# Altium schematic symbol library Temperature project symbols.SchLib: 36 symbols
Pins are listed as number, name and electrical type; pins without a type are passive.

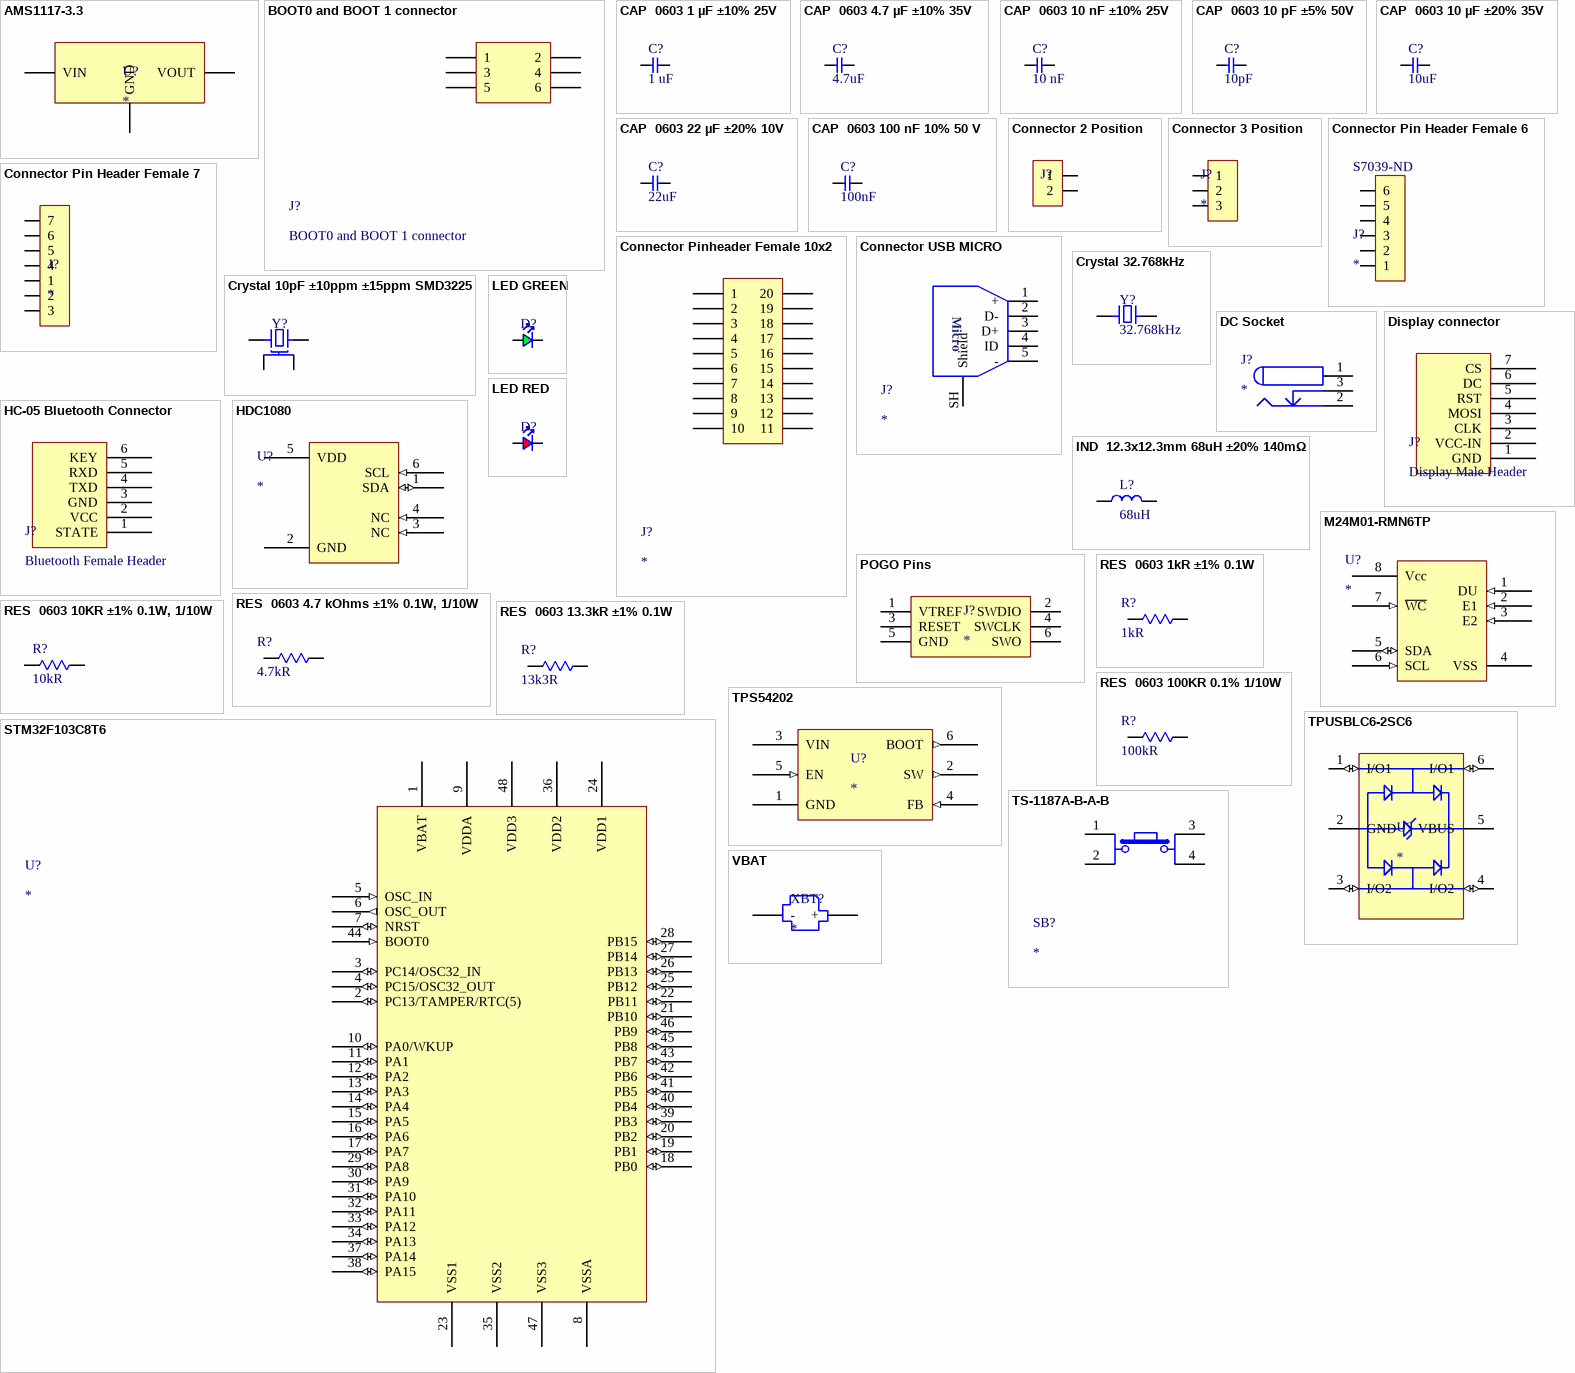
[diagram p0: symbols AMS1117-3.3 to VBAT]

## AMS1117-3.3
designator U?
Linear Voltage Regulator IC Positive Fixed 1 Output 1A SOT-223-3L; Supplier 1: Digikey; Manufacturer 2: UMW(Youtai Semiconductor Co., Ltd.); Manufacturer Part Number 2: AMS1117-3.3; Stock 1: 4324; Pricing 1: 1 = 0.68, 10 = 0.407, 25 = 0.3352, 100 = 0.2538, 250 = 0.2138, 500 = 0.18916, 1000 = 0.16853 (USD); RoHS: No; Supplier 2: LCSC; Supplier Part Number 2: C347222; Supplier Part Number 1: 4518-AMS1117-3.3CT-ND
footprint SOT-223-3L (Linear Voltage Regulator IC Positive Fixed 1 Output 1A SOT-223-3L)
pins: 1 GND, 2 VOUT, 3 VIN

## BOOT0 and BOOT 1 connector
designator J?
2.54mm 2.54mm Double Row 2.5A 6P -40℃~+105℃ Direct Insert 2x3P Top 8.5mm Square Hole Plugin,P=2.54mm Female Headers ROHS; Manufacturer 2: ZHOURI; Manufacturer Part Number 2: PM2.54-2*3; Supplier 2: LCSC; Supplier Part Number 2: C5116527
footprint 2X3 Female Pin Header Connector
pins: 1, 2, 3, 4, 5, 6

## CAP  0603 1 µF ±10% 25V
designator C?, comment 1 uF
1 µF ±10% 25V Ceramic Capacitor X5R 0603 (1608 Metric); Manufacturer: Yageo; Manufacturer Part Number 1: CC0603KRX5R8BB105; Material: 4241ConductorMaterial; Capacitance: 1uF; Supplier 1: Digikey; Stock 1: 2221073; Pricing 1: 1 = 0.1, 10 = 0.049, 50 = 0.0294, 100 = 0.0231, 500 = 0.01706, 1000 = 0.01413 (USD); RoHS: Yes; Mount: Surface Mount; Case/Package: 0603; Number of Pins: 2; Case Code (Metric): 1608; Case Code (Imperial): 0603; Min Operating Temperature: -55°C; Max Operating Temperature: 85°C; Tolerance: 10%; Dielectric: X5R; Voltage Rating: 25V; Packaging: Tape and Reel; Termination: SMD/SMT; Series: CC; Construction: Flat; Voltage Rating (DC): 25V; Length: 1.6mm; Height: 0.8mm; Depth: 0.8mm; Radiation Hardening: No; Reach SVHC Compliant: No; RoHS Compliant: Yes; Halogen Free: 5694HalogenFree; Lead Free: 5697LeadFree; ComponentLink1URL: https://datasheet.ciiva.com/7978/1525783-7978171.pdf?src-supplier=Element14; ComponentLink1Description: https://datasheet.ciiva.com/7978/1525783-7978171.pdf?src-supplier=Element14; ComponentLink2URL: https://datasheet.ciiva.com/176/mlccorderingcode-176786.pdf?src-supplier=Digikey; ComponentLink2Description: https://datasheet.ciiva.com/176/mlccorderingcode-176786.pdf?src-supplier=Digikey; ComponentLink3URL: https://datasheet.ciiva.com/176/mlccorderingcode-176785.pdf?src-supplier=Digikey; ComponentLink3Description: https://datasheet.ciiva.com/176/mlccorderingcode-176785.pdf?src-supplier=Digikey; ComponentLink4URL: https://datasheet.ciiva.com/176/mlccorderingcode-176787.pdf?src-supplier=Digikey; ComponentLink4Description: https://datasheet.ciiva.com/176/mlccorderingcode-176787.pdf?src-supplier=Digikey; ComponentLink5URL: https://datasheet.ciiva.com/11586/upy-gphc-x5r-4v-to-50v-12-11586318.pdf?src-supplier=Avnet; ComponentLink5Description: https://datasheet.ciiva.com/11586/upy-gphc-x5r-4v-to-50v-12-11586318.pdf?src-supplier=Avnet; value: 1 uF; Supplier 2: LCSC; Manufacturer Part Number 2: C14664; Supplier Part Number 1: 311-1445-1-ND; Supplier Part Number 2: C14664
footprint CAP 0603
pins: 1, 2

## CAP  0603 4.7 µF ±10% 35V
designator C?, comment 4.7uF
4.7 µF ±10% 35V Ceramic Capacitor X5R 0603 (1608 Metric); Supplier 1: Digikey; Manufacturer 2: Murata; Manufacturer Part Number 2: GRM188R6YA475KE15D; Stock 1: 74456; Pricing 1: 1 = 0.3, 10 = 0.175, 50 = 0.125, 100 = 0.1095, 500 = 0.08322, 1000 = 0.07504 (USD); RoHS: Yes; Mount: Surface Mount; Case/Package: 0603; Case Code (Metric): 1608; Case Code (Imperial): 0603; Material: Ceramic; Weight: 0.000222oz; Min Operating Temperature: -55°C; Max Operating Temperature: 85°C; Capacitance: 4.7uF; Tolerance: 10%; Voltage Rating: 35V; Packaging: Tape and Reel; Package Quantity: 1; Dielectric: X5R; Voltage: 35V; Termination: SMD/SMT; Voltage Rating (DC): 35V; Series: GRM; Length: 1.6mm; Width: 0.8mm; Height: 0.8mm; Thickness: 0.031inch; Depth: 0.8mm; Reach SVHC Compliant: No; Lead Free: Lead Free; RoHS Compliant: Yes; ComponentLink1URL: https://datasheet.ciiva.com/46444/1769893-46444984.pdf?src-supplier=Element14; ComponentLink1Description: https://datasheet.ciiva.com/46444/1769893-46444984.pdf?src-supplier=Element14; ComponentLink2URL: https://datasheet.ciiva.com/46444/1769893-46444985.pdf?src-supplier=Element14; ComponentLink2Description: https://datasheet.ciiva.com/46444/1769893-46444985.pdf?src-supplier=Element14; ComponentLink3URL: https://datasheet.ciiva.com/14906/partnumbering-e-01-14906427.pdf?src-supplier=Digikey; ComponentLink3Description: https://datasheet.ciiva.com/14906/partnumbering-e-01-14906427.pdf?src-supplier=Digikey; ComponentLink4URL: https://datasheet.ciiva.com/14906/partnumbering-e-01-14906426.pdf?src-supplier=Digikey; ComponentLink4Description: https://datasheet.ciiva.com/14906/partnumbering-e-01-14906426.pdf?src-supplier=Digikey; ComponentLink5URL: https://datasheet.ciiva.com/14906/partnumbering-e-01-14906428.pdf?src-supplier=Digikey; ComponentLink5Description: https://datasheet.ciiva.com/14906/partnumbering-e-01-14906428.pdf?src-supplier=Digikey; value: 4.7uF; Supplier 2: LCSC; Supplier Part Number 2: C162274; Supplier Part Number 1: 490-7205-6-ND
footprint CAP 0603
pins: 1, 2

## CAP  0603 10 nF ±10% 25V
designator C?, comment 10 nF
10000 pF ±10% 25V Ceramic Capacitor X7R 0603 (1608 Metric); Supplier 1: Digikey; Manufacturer 2: Murata; Manufacturer Part Number 2: GCJ188R71E103KA01J; Stock 1: 28712; Pricing 1: 1 = 0.12, 10 = 0.068, 50 = 0.047, 100 = 0.0406, 500 = 0.02964, 1000 = 0.02625, 2500 = 0.02265, 5000 = 0.02047 (USD); RoHS: Yes; Supplier Part Number 1: 490-GCJ188R71E103KA01JCT-ND; Supplier 2: LCSC; value: 10 nF; Supplier Part Number 2: C17255079
footprint CAP 0603
pins: 1, 2

## CAP  0603 10 pF ±5% 50V
designator C?, comment 10pF
10 pF ±5% 50V Ceramic Capacitor C0G, NP0 0603 (1608 Metric); Temperature Coefficient: 30ppm/°C; Insulation Resistance: 100GR; value: 10pF; Supplier 1: Digikey; Manufacturer 2: Yageo; Manufacturer Part Number 2: CC0603JRNPO9BN100; Stock 1: 267181; Pricing 1: 1 = 0.1, 10 = 0.03, 50 = 0.0204, 100 = 0.0173, 500 = 0.0123, 1000 = 0.01073 (USD); RoHS: Yes; Mount: Surface Mount; Case/Package: 0603; Number of Pins: 2; Case Code (Metric): 1608; Case Code (Imperial): 0603; Min Operating Temperature: -55°C; Max Operating Temperature: 125°C; Tolerance: 5%; Dielectric: C0G; Capacitance: 10pF; Voltage: 50V; Voltage Rating: 50V; Voltage Rating (DC): 50V; Packaging: Tape and Reel; Package Quantity: 4000; Termination: SMD/SMT; Series: CC; Length: 1.6mm; Width: 0.8mm; Height: 0.8mm; Depth: 0.8mm; Radiation Hardening: No; RoHS Compliant: Yes; Reach SVHC Compliant: No; Lead Free: Lead Free; Halogen Free: 5694HalogenFree; ComponentLink1URL: https://datasheet.ciiva.com/144/mlccorderingcode-144651.pdf?src-supplier=Digikey; ComponentLink1Description: https://datasheet.ciiva.com/144/mlccorderingcode-144651.pdf?src-supplier=Digikey; ComponentLink2URL: https://datasheet.ciiva.com/11786/0900766b8079c870-11786407.pdf?src-supplier=Rs; ComponentLink2Description: https://datasheet.ciiva.com/11786/0900766b8079c870-11786407.pdf?src-supplier=Rs; ComponentLink3URL: https://datasheet.ciiva.com/5789/1734582-5789616.pdf?src-supplier=Farnell; ComponentLink3Description: https://datasheet.ciiva.com/5789/1734582-5789616.pdf?src-supplier=Farnell; ComponentLink4URL: https://datasheet.ciiva.com/26862/getdatasheetpartid-403524-26862758.pdf?src-supplier=Verical; ComponentLink4Description: https://datasheet.ciiva.com/26862/getdatasheetpartid-403524-26862758.pdf?src-supplier=Verical; ComponentLink5URL: https://datasheet.ciiva.com/7978/1132289-7978126.pdf?src-supplier=Element14; ComponentLink5Description: https://datasheet.ciiva.com/7978/1132289-7978126.pdf?src-supplier=Element14; ComponentLink6URL: https://datasheet.ciiva.com/46430/1835847-46430150.pdf?src-supplier=Element14; ComponentLink6Description: https://datasheet.ciiva.com/46430/1835847-46430150.pdf?src-supplier=Element14; ComponentLink7URL: https://datasheet.ciiva.com/144/mlccorderingcode-144650.pdf?src-supplier=Digikey; ComponentLink7Description: https://datasheet.ciiva.com/144/mlccorderingcode-144650.pdf?src-supplier=Digikey; ComponentLink8URL: https://datasheet.ciiva.com/144/mlccorderingcode-144649.pdf?src-supplier=Digikey; ComponentLink8Description: https://datasheet.ciiva.com/144/mlccorderingcode-144649.pdf?src-supplier=Digikey; ComponentLink9URL: https://datasheet.ciiva.com/5425/upy-gp-np0-16v-to-50v-8-5425564.pdf?src-supplier=Mouser; ComponentLink9Description: https://datasheet.ciiva.com/5425/upy-gp-np0-16v-to-50v-8-5425564.pdf?src-supplier=Mouser; ComponentLink10URL: https://datasheet.ciiva.com/8033/1734582-8033710.pdf?src-supplier=Element14; ComponentLink10Description: https://datasheet.ciiva.com/8033/1734582-8033710.pdf?src-supplier=Element14; ComponentLink11URL: https://datasheet.ciiva.com/8033/1734582-8033706.pdf?src-supplier=Element14; ComponentLink11Description: https://datasheet.ciiva.com/8033/1734582-8033706.pdf?src-supplier=Element14; Supplier Part Number 1: 311-1058-1-ND; 1: *; Supplier 2: LCSC; Supplier Part Number 2: C106245
footprint CAP 0603
pins: 1, 2

## CAP  0603 10 µF ±20% 35V
designator C?, comment 10uF
10 µF ±20% 35V Ceramic Capacitor X5R 0603 (1608 Metric); Supplier 1: Digikey; Manufacturer 2: Murata; Manufacturer Part Number 2: GRM188R6YA106MA73D; Stock 1: 432618; Pricing 1: 1 = 0.3, 10 = 0.172, 50 = 0.123, 100 = 0.1077, 500 = 0.0818, 1000 = 0.07373 (USD); RoHS: Yes; Mount: Surface Mount; Case/Package: 0603; Case Code (Metric): 1608; Case Code (Imperial): 0603; Material: Ceramic; Min Operating Temperature: -55°C; Max Operating Temperature: 85°C; Packaging: Cut Tape; Capacitance: 10uF; Voltage Rating: 35V; Tolerance: 20%; Voltage Rating (DC): 35V; Dielectric: X5R; Series: GRM; Length: 0.063inch; Width: 0.031inch; Height: 1mm; Thickness: 0.039inch; RoHS Compliant: Yes; ComponentLink1URL: http://search.murata.co.jp/Ceramy/image/img/A01X/G101/ENG/GRM188R6YA106MA73-01.pdf?src-supplier=Digikey; ComponentLink1Description: http://search.murata.co.jp/Ceramy/image/img/A01X/G101/ENG/GRM188R6YA106MA73-01.pdf?src-supplier=Digikey; ComponentLink2URL: https://www.murata.com/~/media/webrenewal/support/library/catalog/products/capacitor/mlcc/c02e.ashx?la=en-us&src-supplier=Digikey; ComponentLink2Description: https://www.murata.com/~/media/webrenewal/support/library/catalog/products/capacitor/mlcc/c02e.ashx?la=en-us&src-supplier=Digikey; ComponentLink3URL: https://datasheet.octopart.com/GRM188R6YA106MA73D-Murata-datasheet-86813743.pdf?src-supplier=Future+Electronics; ComponentLink3Description: https://datasheet.octopart.com/GRM188R6YA106MA73D-Murata-datasheet-86813743.pdf?src-supplier=Future+Electronics; ComponentLink4URL: https://datasheet.octopart.com/GRM188R6YA106MA73D-Murata-datasheet-149523261.pdf?src-supplier=Newark; ComponentLink4Description: https://datasheet.octopart.com/GRM188R6YA106MA73D-Murata-datasheet-149523261.pdf?src-supplier=Newark; ComponentLink5URL: http://search.murata.co.jp/Ceramy/image/img/A01X/G101/ENG/GRM188R6YA106MA73-01.pdf?src-supplier=Mouser; ComponentLink5Description: http://search.murata.co.jp/Ceramy/image/img/A01X/G101/ENG/GRM188R6YA106MA73-01.pdf?src-supplier=Mouser; ComponentLink6URL: http://search.murata.co.jp/Ceramy/image/img/A01X/G101/ENG/GRM188R6YA106MA73-01.pdf?src-supplier=Future+Electronics; ComponentLink6Description: http://search.murata.co.jp/Ceramy/image/img/A01X/G101/ENG/GRM188R6YA106MA73-01.pdf?src-supplier=Future+Electronics; ComponentLink7URL: http://search.murata.co.jp/Ceramy/image/img/A01X/G101/ENG/GRM188R6YA106MA73-01.pdf?src-supplier=TTI; ComponentLink7Description: http://search.murata.co.jp/Ceramy/image/img/A01X/G101/ENG/GRM188R6YA106MA73-01.pdf?src-supplier=TTI; ComponentLink8URL: https://datasheet.octopart.com/GRM188R6YA106MA73D-Murata-datasheet-165579666.pdf?src-supplier=TME; ComponentLink8Description: https://datasheet.octopart.com/GRM188R6YA106MA73D-Murata-datasheet-165579666.pdf?src-supplier=TME; Supplier Part Number 1: 490-13248-1-ND; Supplier Part Number 2: C194427; Supplier 2: LCSC; value: 10uF
footprint CAP 0603
pins: 1, 2

## CAP  0603 22 µF ±20% 10V
designator C?, comment 22uF
10V 22uF X5R ±20% 0603 Multilayer Ceramic Capacitors MLCC - SMD/SMT ROHS; Supplier 2: LCSC; Manufacturer 2: Samsung Electro-Mechanics; Manufacturer Part Number 2: CL10A226MP8NUNE; Supplier Part Number 2: C86295; value: 22uF
footprint CAP 0603
pins: 1, 2

## CAP  0603 100 nF 10% 50 V
designator C?, comment 100nF
0.1 µF ±10% 50V Ceramic Capacitor X7R 0603 (1608 Metric); Manufacturer 1: Samsung; Manufacturer Part Number 1: CL10B104KB8NNNC; Supplier 1: Digikey; Stock 1: 6418947; Pricing 1: 4000 = 0.00562, 8000 = 0.00513, 12000 = 0.00489, 28000 = 0.00464, 100000 = 0.00336, 200000 = 0.00325, 400000 = 0.00306 (USD); RoHS: Yes; Mount: Surface Mount; Case/Package: 0603; Case Code (Metric): 1608; Case Code (Imperial): 0603; Material: Ceramic; Min Operating Temperature: -55°C; Max Operating Temperature: 125°C; Capacitance: 100nF; Tolerance: 10%; Dielectric: X7R; Voltage: 50V; Voltage Rating (DC): 50V; Voltage Rating: 50V; Package Quantity: 1; Packaging: Tape and Reel; Series: CL; Construction: Flat; Length: 1.6mm; Width: 0.031inch; Height: 0.8mm; Depth: 0.8mm; Thickness: 0.035inch; Radiation Hardening: No; Lead Free: Lead Free; RoHS Compliant: Yes; ComponentLink1URL: https://datasheet.ciiva.com/25803/cl10b104kb8nnnc-25803393.pdf?src-supplier=Digikey; ComponentLink1Description: https://datasheet.ciiva.com/25803/cl10b104kb8nnnc-25803393.pdf?src-supplier=Digikey; ComponentLink2URL: https://datasheet.ciiva.com/26838/getdatasheetpartid-89097-26838411.pdf?src-supplier=Verical; ComponentLink2Description: https://datasheet.ciiva.com/26838/getdatasheetpartid-89097-26838411.pdf?src-supplier=Verical; ComponentLink3URL: https://datasheet.ciiva.com/29198/456651-da-01-en-vs-kondensator-0605-29198839.pdf?src-supplier=Conrad; ComponentLink3Description: https://datasheet.ciiva.com/29198/456651-da-01-en-vs-kondensator-0605-29198839.pdf?src-supplier=Conrad; Supplier Part Number 1: 1276-1000-2-ND; value: 100nF; Manufacturer 2: Samsung; Manufacturer Part Number 2: CL10B104KB8NNNC; Supplier 2: LCSC; Supplier Part Number 2: C1591
footprint CAP 0603
pins: 1, 2

## Connector 2 Position
designator J?  (value not drawn)
Connector Header Through Hole 2 position 0.100" (2.54mm); Manufacturer 1: Wurth Electronics; Manufacturer Part Number 1: 61300211121; Current Rating: 3A; Voltage Rating: 250V; Number of Positions: 2; Gender: 29Gender; Contact Resistance: 20mR; Pitch: 0.1inch; Supplier 1: Digikey; Stock 1: 71612; Pricing 1: 1 = 0.13, 10 = 0.113, 25 = 0.094, 50 = 0.079, 100 = 0.071, 1000 = 0.065 (USD); RoHS: Yes; Mount: Through Hole; Contact Plating: Gold; Housing Material: PBT; Contact Material: Copper Alloy,Copper; Color: Black; Min Operating Temperature: -40°C; Max Operating Temperature: 125°C; Number of Rows: 1; Contact Gender: Male; Packaging: Bulk; Termination: Through Hole; Number of Contacts: 2; Series: WR-PHD; Contact Type: Male Pin; Operating Supply Voltage: 250V; Orientation: Vertical; Height: 8.94mm; Contact Mating Length: 0.236inch; Lead Free: Lead Free; RoHS Compliant: Yes; Reach SVHC Compliant: Unknown; ComponentLink1URL: https://datasheet.ciiva.com/13619/6130xx11121-48870-13619345.pdf?src-supplier=Mouser; ComponentLink1Description: https://datasheet.ciiva.com/13619/6130xx11121-48870-13619345.pdf?src-supplier=Mouser; Supplier Part Number 1: 732-5315-ND; Manufacturer Part Number 2: PREC001SFAN-RC; Manufacturer 2: Sullins Connector Solutions; Supplier 2: LCSC; Supplier Part Number 2: C3326568
footprint WR-PHD Pin Header 2 pin (2 pin header connector 2.53 mm pitch)
pins: 1, 2

## Connector 3 Position
designator J?
Connector Header Through Hole 3 position 0.100" (2.54mm); Manufacturer 1: Wurth Electronics; Manufacturer Part Number 1: 61300311121; Number of Positions: 3; Gender: Male; Contact Resistance: 20mR; Current Rating: 3A; Voltage Rating: 250V; Pitch: 0.1inch; Supplier 1: Digikey; Stock 1: 158018; Pricing 1: 1 = 0.13, 10 = 0.113, 25 = 0.094, 50 = 0.079, 100 = 0.071, 1000 = 0.066 (USD); RoHS: Yes; Mount: Through Hole; Contact Plating: Gold; Contact Material: Copper; Color: Black; Min Operating Temperature: -40°C; Max Operating Temperature: 105°C; Number of Rows: 1; Packaging: Bulk; Termination: Solder; Number of Contacts: 3; Series: WR-PHD; Contact Type: Male Pin; Operating Supply Voltage: 250V; Orientation: 5495OrientationType; Height: 8.94mm; Contact Mating Length: 0.236inch; Lead Free: Lead Free; RoHS Compliant: Yes; Reach SVHC Compliant: Unknown; ComponentLink1URL: https://katalog.we-online.de/em/datasheet/6130xx11121.pdf?src-supplier=Digikey; ComponentLink1Description: https://katalog.we-online.de/em/datasheet/6130xx11121.pdf?src-supplier=Digikey; ComponentLink2URL: http://www.farnell.com/cad/1737268.pdf?src-supplier=Element14; ComponentLink2Description: http://www.farnell.com/cad/1737268.pdf?src-supplier=Element14; ComponentLink3URL: https://datasheet.octopart.com/61300311121-W%C3%BCrth-Elektronik-datasheet-21154836.pdf?src-supplier=Element14; ComponentLink3Description: https://datasheet.octopart.com/61300311121-W%C3%BCrth-Elektronik-datasheet-21154836.pdf?src-supplier=Element14; Manufacturer 2: Harwin; Manufacturer Part Number 2: M20-9990345; Supplier 2: LCSC; Supplier Part Number 2: C3337081; Supplier Part Number 1: 732-5316-ND
footprint WR-PHD Pin Header 3 pin - duplicate (3 pin header connector 2.53 mm pitch)
pins: 1, 2, 3

## Connector Pin Header Female 6
designator J?  Supplier Part Number 1: S7039-ND
6 Position Header Connector 0.100" (2.54mm) Through Hole Gold; Number of Positions: 6; Voltage Rating: 250V; Current Rating: 3A; Number of Contacts: 6NUMBER; Supplier 1: Digikey; Manufacturer 2: Sullins; Manufacturer Part Number 2: PPPC061LFBN-RC; Stock 1: 14837; Pricing 1: 1 = 0.47, 10 = 0.382, 80 = 0.31725, 440 = 0.27275, 1000 = 0.25359, 5000 = 0.2405 (USD); RoHS: Yes; Mount: Through Hole; Contact Material: Nickel,Gold; Housing Material: Plastic; Contact Finish - Mating: GOLD; Insulation Color: Black; Insulation Material: Polyester; Contact Shape: Square; Min Operating Temperature: -40°C; Max Operating Temperature: 105°C; Number of Rows: 1; Packaging: Tray; Termination: Solder; Connector Type: Header; Contact Type: Female Socket; Fastening Type: Pull; Series: -; Length: 15.7mm; Width: 2.5mm; Height: 8.7mm; Lead Free: Lead Free; RoHS Compliant: Yes; Flammability Rating: UL94 V-0; ComponentLink1URL: https://media.digikey.com/pdf/Data%20Sheets/Sullins%20PDFs/Female_Headers.100_DS.pdf?src-supplier=Digikey; ComponentLink1Description: https://media.digikey.com/pdf/Data%20Sheets/Sullins%20PDFs/Female_Headers.100_DS.pdf?src-supplier=Digikey; Supplier 2: LCSC; Supplier Part Number 2: PPPC061LFBN-RC
pins: 1, 2, 3, 4, 5, 6

## Connector Pin Header Female 7
designator J?
2.54mm Single Row 3A Copper alloy 7P -40℃~+105℃ Direct Insert 1x7P 8.5mm Top Square Hole Plugin,P=2.54mm Female Headers ROHS; Manufacturer 2: HCTL; Manufacturer Part Number 2: PM254-1-07-Z-8.5; Supplier 2: LCSC; Supplier Part Number 2: C2897370
footprint 7 Pins Female Header
pins: 1, 2, 3, 4, 5, 6, 7

## Connector Pinheader Female 10x2
designator J?
20 Position Header Connector 0.100" (2.54mm) Through Hole Gold; Manufacturer: Sullins; Current Rating: 3A; Frequency: 100kHz; Max Output Current: -200mA; Max Supply Voltage: 16V; Min Supply Voltage: 4.5V; Supplier 1: Digikey; Manufacturer Part Number 2: PPPC102LFBN-RC; Stock 1: 44558; Pricing 1: 1 = 1.2, 10 = 0.98, 80 = 0.81475, 440 = 0.70043, 1000 = 0.6747 (USD); RoHS: Yes; Case/Package: 69Case; Contact Material: 150ConductorMaterial; Housing Material: 4239ConductorMaterial; Weight: 72.603129mg; Length: 4.9mm; Width: 3.91mm; Height: 1.58mm; Radiation Hardening: 5898YesNo; Lead Free: 5697LeadFree; Reach SVHC Compliant: 4186SVHC; RoHS Compliant: 5897YesNo; ComponentLink1URL: https://drawings-pdf.s3.amazonaws.com/10492.pdf?src-supplier=Digikey; ComponentLink1Description: https://drawings-pdf.s3.amazonaws.com/10492.pdf?src-supplier=Digikey; ComponentLink2URL: http://www.sullinscorp.com/catalogs/101_Page80-81_HEADER_.100_2.54mm_FEMALE.pdf?src-supplier=Future+Electronics; ComponentLink2Description: http://www.sullinscorp.com/catalogs/101_Page80-81_HEADER_.100_2.54mm_FEMALE.pdf?src-supplier=Future+Electronics; ComponentLink3URL: https://datasheet.octopart.com/PPPC102LFBN-RC-Sullins-datasheet-41308905.pdf?src-supplier=Future+Electronics; ComponentLink3Description: https://datasheet.octopart.com/PPPC102LFBN-RC-Sullins-datasheet-41308905.pdf?src-supplier=Future+Electronics; Supplier Part Number 1: S6106-ND; Supplier 2: LCSC; Supplier Part Number 2: C5845310
footprint Connector Pinheader 10x2 (20 Position Header Connector 0.100" (2.54mm) Through Hole Gold)
pins: 1, 2, 3, 4, 5, 6, 7, 8, 9, 10, 11, 12, 13, 14, 15, 16, 17, 18, 19, 20

## Connector USB MICRO
designator J?
1.8A USB 2.0 1 Horizontal attachment 5P Mother -20℃~+85℃ Micro-B SMD USB Connectors ROHS; Manufacturer 2: SHOU HAN; Manufacturer Part Number 2: MicroXNJ; Supplier 2: LCSC; Supplier Part Number 2: C404969
footprint Connector USB MICRO (1.8A USB 2.0 1 Horizontal attachment 5P Mother -20?~+85? Micro-B SMD USB Connectors ROHS)
pins: 1 +, 2 D-, 3 D+, 4 ID, 5 -, SH Shield
text: Micro

## Crystal 10pF ±10ppm ±15ppm SMD3225
designator Y?  (value not drawn)
8MHz Surface Mount Crystal 10pF ±10ppm ±15ppm SMD3225-4P Crystals ROHS; Manufacturer 2: Yajingxin; Manufacturer Part Number 2: TAXM8M4RDBCCT2T; Supplier Part Number 2: C400090; Supplier 2: LCSC
footprint SMD3225-4P (8MHz Surface Mount Crystal 10pF ±10ppm ±15ppm SMD3225-4P Crystals ROHS)
pins: 1, 2 GND, 3, 4 GND

## Crystal 32.768kHz
designator Y?, comment 32.768kHz
32.768kHz Surface Mount Crystal 7pF ±20ppm SMD2012-2P Crystals ROHS; Manufacturer 2: Seiko Epson; Manufacturer Part NUmber 2: X1A0000610006; Supplier 2: LCSC; Supplier Part Number 2: C99009
footprint SMD2012-2P (32.768kHz Surface Mount Crystal 7pF ±20ppm SMD2012-2P Crystals ROHS)
pins: 1, 2

## DC Socket
designator J?
Bend-in DC Power Receptacle -20℃~+70℃ 2.5mm 6.3mm 3A 30V Plugin DC Power Connectors ROHS; Manufacturer 2: XUNPU; Manufacturer Part Number 2: DC-005-A250; Supplier 2: LCSC; Supplier Part Number 2: C720558
footprint DC Socket
pins: 1 VIN, 2 GND, 3 GND

## Display connector
designator J?, comment Display Male Header
- Display: 0.95" Inch 7 Pin Colorful 65K SPI OLED Display Module SSD1331 9664 Resolution For 51 STM32 Arduino / - Connector: Direct Insert Policy 2.5mm 7P 6mm -40℃~+105℃ 3mm 2.54mm Single Row Black Brass 1x7P Plugin,P=2.54mm Pin Headers ROHS; Manufacturer 2: XFCN; Manufacturer Part Number 2: PZ254V-11-07P; Supplier 2: LCSC; Supplier Part Number 2: C492406
footprint OLED Display (0.95" Inch 7 Pin Colorful 65K SPI OLED Display Module SSD1331 9664 Resolution For 51 STM32 Arduino)
pins: 1 GND, 2 VCC-IN, 3 CLK, 4 MOSI, 5 RST, 6 DC, 7 CS

## HC-05 Bluetooth Connector
designator J?, comment Bluetooth Female Header
Number of Positions: 6; Voltage Rating: 250V; Current Rating: 3A; Number of Contacts: 6NUMBER; Supplier 1: Digikey; Manufacturer 2: Sullins; Manufacturer Part Number 2: PPPC061LFBN-RC; Stock 1: 9721; Pricing 1: 1 = 0.47, 10 = 0.382, 80 = 0.31725, 440 = 0.27275, 1000 = 0.25359, 5000 = 0.2405 (USD); RoHS: Yes; Mount: Through Hole; Contact Material: Nickel,Gold; Housing Material: Plastic; Contact Finish - Mating: GOLD; Insulation Color: Black; Insulation Material: Polyester; Contact Shape: Square; Min Operating Temperature: -40°C; Max Operating Temperature: 105°C; Number of Rows: 1; Packaging: Tray; Termination: Solder; Connector Type: Header; Contact Type: Female Socket; Fastening Type: Pull; Series: -; Length: 15.7mm; Width: 2.5mm; Height: 8.7mm; Lead Free: Lead Free; RoHS Compliant: Yes; Flammability Rating: UL94 V-0; ComponentLink1URL: https://media.digikey.com/pdf/Data%20Sheets/Sullins%20PDFs/Female_Headers.100_DS.pdf?src-supplier=Digikey; ComponentLink1Description: https://media.digikey.com/pdf/Data%20Sheets/Sullins%20PDFs/Female_Headers.100_DS.pdf?src-supplier=Digikey; Supplier Part Number 1: S7039-ND; Supplier 2: LCSC; Supplier Part Number 2: C5845309
footprint HC-05 Bluetooth
pins: 1 STATE, 2 VCC, 3 GND, 4 TXD, 5 RXD, 6 KEY

## HDC1080
designator U?
Humidity, Temperature 0 ~ 100% RH I2C ±2% RH 15 s Surface Mount; Response Time: 15s; Supplier 1: Digikey; Manufacturer 2: Texas Instruments; Manufacturer Part Number 2: HDC1080DMBR; Stock 1: 6270; Pricing 1: 1 = 3.47, 5 = 2.928, 10 = 2.721, 25 = 2.4688, 50 = 2.2942, 100 = 2.1319, 500 = 1.79838, 1000 = 1.67143 (USD); RoHS: Yes; Mount: Surface Mount; Min Operating Temperature: -40°C; Max Operating Temperature: 125°C; Accuracy: 2%; Interface: I2C; Sensor Type: Temperature; Output Type: I2C; Series: -; Packaging: Cut Tape; Lead Free: Lead Free; RoHS Compliant: Yes; ComponentLink1URL: http://www.ti.com/lit/ds/symlink/hdc1080.pdf?src-supplier=Digikey; ComponentLink1Description: http://www.ti.com/lit/ds/symlink/hdc1080.pdf?src-supplier=Digikey; ComponentLink2URL: http://www.ti.com/general/docs/suppproductinfo.tsp?distId=10&amp;gotoUrl=http%3A%2F%2Fwww.ti.com%2Flit%2Fgpn%2Fhdc1080&src-supplier=Digikey; ComponentLink2Description: http://www.ti.com/general/docs/suppproductinfo.tsp?distId=10&amp;gotoUrl=http%3A%2F%2Fwww.ti.com%2Flit%2Fgpn%2Fhdc1080&src-supplier=Digikey; Supplier 2: LCSC; Supplier Part Number 2: C82227; Supplier Part Number 1: 296-46272-1-ND
footprint PWSON(6-pin) DMB (HDC1080 Low Power, High Accuracy Digital Humidity Sensor with Temperature Sensor)
pins: 1 SDA (io), 2 GND (power), 3 NC (in), 4 NC (in), 5 VDD (power), 6 SCL (in)

## IND  12.3x12.3mm 68uH ±20% 140mΩ
designator L?, comment 68uH
2.1A 68uH ±20% 140mΩ SMD,12.3x12.3mm Inductors (SMD) ROHS; Manufacturer 2: SHOU HAN; Manufacturer Part Number 2: CYH127-68UH; Supplier 2: LCSC; Supplier Part Number 2: C2929504; value: 68uH
footprint Inductor SMD,12.3x12.3mm (2.1A 68uH ±20% 140mO SMD,12.3x12.3mm Inductors (SMD) ROHS)
pins: 1 2, 2

## LED GREEN
designator D?  (value not drawn)
Green 520nm LED Indication - Discrete 3.2V 0603 (1608 Metric); Manufacturer 1: Wurth Electronics; Manufacturer Part Number 1: 150060GS75000; Lens Color: Colorless; Viewing Angle: 140°; Lens Style: Clear,Flat,Rectangular; Luminous Intensity: 430mcd; Forward Current: 30mA; Test Current: 20mA; Lens Transparency: Clear; Max Reverse Voltage (DC): 5V; Output Current: 10uA; Power Dissipation: 105mW; Lens Size: 0.7mm; Supplier 1: Digikey; Stock 1: 149465; Pricing 1: 1 = 0.15, 50 = 0.142, 100 = 0.122, 500 = 0.105 (USD); RoHS: Yes; Mount: Surface Mount; Case/Package: 0603; Color: Green; Case Code (Metric): 1608; Case Code (Imperial): 0603; Min Operating Temperature: -40°C; Max Operating Temperature: 85°C; Wavelength: 520nm; Package Quantity: 1; Packaging: Cut Tape; Forward Voltage: 3.2V; Dominant Wavelength: 520nm; Series: WL-SMCW; Reverse Voltage: 5V; Length: 1.6mm; Width: 0.8mm; Height: 0.8mm; Lead Free: Lead Free; RoHS Compliant: Yes; Reach SVHC Compliant: Unknown; ComponentLink1URL: https://datasheet.ciiva.com/29562/150060gs75000-29562868.pdf?src-supplier=Digikey; ComponentLink1Description: https://datasheet.ciiva.com/29562/150060gs75000-29562868.pdf?src-supplier=Digikey; ComponentLink2URL: https://datasheet.ciiva.com/29279/759427-da-01-en-chipled-0603-w-kl-gruen-150060gs75000-29279201.pdf?src-supplier=Conrad; ComponentLink2Description: https://datasheet.ciiva.com/29279/759427-da-01-en-chipled-0603-w-kl-gruen-150060gs75000-29279201.pdf?src-supplier=Conrad; ComponentLink3URL: https://datasheet.ciiva.com/29562/150060gs75000-29562869.pdf?src-supplier=Digikey; ComponentLink3Description: https://datasheet.ciiva.com/29562/150060gs75000-29562869.pdf?src-supplier=Digikey; ComponentLink4URL: https://datasheet.ciiva.com/29562/150060gs75000-29562870.pdf?src-supplier=Digikey; ComponentLink4Description: https://datasheet.ciiva.com/29562/150060gs75000-29562870.pdf?src-supplier=Digikey; Supplier Part Number 1: 732-4971-1-ND; Supplier 2: LCSC; Supplier Part Number 2: C22371298; Manufacturer 2: HONGLITRONIC(Hongli Zhihui (HONGLITRONIC)); Manufacturer Part Number 2: PSC-1608U50GC-G4
footprint LED GREEN
pins: 1, 2

## LED RED
designator D?  (value not drawn)
Red 625nm LED Indication - Discrete 2V 0603 (1608 Metric); Manufacturer 1: Wurth Electronics; Manufacturer Part Number 1: 150060RS75000; Lens Color: Colorless; Viewing Angle: 140°; Lens Style: Clear,Flat,Rectangular; Luminous Intensity: 250mcd; Forward Current: 30mA; Test Current: 20mA; Lens Transparency: Clear; Max Reverse Voltage (DC): 5V; Power Dissipation: 72mW; Lens Size: 0.7mm; Supplier 1: Digikey; Stock 1: 110901; Pricing 1: 1 = 0.15, 50 = 0.142, 100 = 0.122, 500 = 0.105, 1000 = 0.10125 (USD); RoHS: Yes; Mount: Surface Mount; Case/Package: 0603; Color: Red; Case Code (Metric): 1608; Case Code (Imperial): 0603; Min Operating Temperature: -40°C; Max Operating Temperature: 85°C; Package Quantity: 1; Packaging: Cut Tape; Forward Voltage: 2V; Wavelength: 625nm; Dominant Wavelength: 625nm; Series: WL-SMCW; Reverse Voltage: 5V; Length: 1.6mm; Width: 0.8mm; Height: 0.8mm; RoHS Compliant: Yes; Reach SVHC Compliant: Unknown; ComponentLink1URL: https://datasheet.ciiva.com/29563/150060rs75000-29563040.pdf?src-supplier=Digikey; ComponentLink1Description: https://datasheet.ciiva.com/29563/150060rs75000-29563040.pdf?src-supplier=Digikey; Supplier Part Number 1: 732-4978-1-ND; Supplier 2: LCSC; Supplier Part Number 2: C128251; Manufacturer 2: Everlight Elec; Manufacturer Part Number 2: 19-213/R6C-AN2Q1B/3T
footprint LED RED
pins: 1, 2

## M24M01-RMN6TP
designator U?
EEPROM Memory IC 1Mbit I2C 1 MHz 500 ns 8-SOIC; Organization: 32KX8; Interface: I2C,Serial; Access Time: 500ns; Density: 1Mb; Max Frequency: 400kHz; Max Supply Voltage: 5.5V; Min Supply Voltage: 1.8V; Frequency: 1MHz; Operating Supply Voltage: 5V; Memory Type: Non-Volatile,EEPROM; Write Cycle Time-Max (tWC): 5ms; Access Time-Max: 900ns; Write Protection: YES; Supply Current: 2mA; Supplier 1: Digikey; Manufacturer 2: STMicroelectronics; Manufacturer Part Number 2: M24M01-RMN6TP; Stock 1: 11953; Pricing 1: 1 = 1.41, 10 = 1.287, 25 = 1.252, 50 = 1.2456, 100 = 1.1134, 250 = 1.11012, 500 = 1.09336, 1000 = 1.04695 (USD); RoHS: Yes; Mount: Surface Mount; Case/Package: SOIC; Number of Pins: 8; Min Operating Temperature: -40°C; Max Operating Temperature: 85°C; Packaging: Tape and Reel; Package Quantity: 2500; Memory Size: 1Mb; Series: -; Supply Voltage-Nom: 5.5V; Programming Voltage: 5.5V; Length: 5mm; Width: 4mm; Height: 1.25mm; Radiation Hardening: No; Lead Free: Lead Free; RoHS Compliant: Yes; ComponentLink1URL: https://datasheet.ciiva.com/1905/cd00147128-1905279.pdf?src-supplier=Digikey; ComponentLink1Description: https://datasheet.ciiva.com/1905/cd00147128-1905279.pdf?src-supplier=Digikey; ComponentLink2URL: https://datasheet.ciiva.com/1905/cd00147128-1905280.pdf?src-supplier=Digikey; ComponentLink2Description: https://datasheet.ciiva.com/1905/cd00147128-1905280.pdf?src-supplier=Digikey; ComponentLink3URL: https://datasheet.ciiva.com/1905/cd00147128-1905281.pdf?src-supplier=Digikey; ComponentLink3Description: https://datasheet.ciiva.com/1905/cd00147128-1905281.pdf?src-supplier=Digikey; ComponentLink4URL: https://datasheet.ciiva.com/41455/001185587-da-01-en-ic-eeprom-1mbit-m24m01-rmn6tp-soic-8-stm-41455205.pdf?src-supplier=Conrad; ComponentLink4Description: https://datasheet.ciiva.com/41455/001185587-da-01-en-ic-eeprom-1mbit-m24m01-rmn6tp-soic-8-stm-41455205.pdf?src-supplier=Conrad; Supplier 2: LCSC; Supplier Part Number 2: C79990; Supplier Part Number 1: 497-6351-1-ND
footprint SO8N (EEPROM Memory IC 1Mbit I2C 1 MHz 500 ns 8-SOIC)
pins: 1 DU (in), 2 E1 (in), 3 E2 (in), 4 VSS (power), 5 SDA (io), 6 SCL (in), 7 ~{WC} (in), 8 Vcc (power)

## POGO Pins
designator J?  (no BOM)
Plug-Of-Nails™ Cable Assembly
footprint SEGGER_8.06.16_J-LINK_6-PIN_NEEDLE_ADAPTER
pins: 1 VTREF, 2 SWDIO, 3 RESET, 4 SWCLK, 5 GND, 6 SWO

## RES  0603 1kR ±1% 0.1W
designator R?, comment 1kR
1 kOhms ±1% 0.1W, 1/10W Chip Resistor 0603 (1608 Metric) Moisture Resistant Thick Film; Manufacturer: Yageo; Manufacturer Part Number 1: RC0603FR-071KL; Power Rating: 100mW; Voltage Rating: 50V; Temperature Coefficient: 100ppm/°C; ComponentLink5URL: http://www.yageo.com/documents/recent/PYu-RC_Group_51_RoHS_L_9.pdf?src-supplier=Arrow+Electronics; ComponentLink5Description: http://www.yageo.com/documents/recent/PYu-RC_Group_51_RoHS_L_9.pdf?src-supplier=Arrow+Electronics; ComponentLink6URL: https://datasheet.octopart.com/RC0603FR-0710KL-Yageo-datasheet-15599030.pdf?src-supplier=Future+Electronics; ComponentLink6Description: https://datasheet.octopart.com/RC0603FR-0710KL-Yageo-datasheet-15599030.pdf?src-supplier=Future+Electronics; Supplier 1: Future Electronics; Stock 1: 15835000; Pricing 1: 5000 = 0.0014, 50000 = 0.0014, 150000 = 0.0013, 375000 = 0.0013, 1000000 = 0.0012 (USD); RoHS: Yes; Case/Package: 0603; Case Code (Imperial): 0603; Case Code (Metric): 1608; Contact Plating: Tin,Matte; Min Operating Temperature: -55°C; Max Operating Temperature: 155°C; Tolerance: 1%; Resistance: 1kR; Packaging: Tape and Reel; Termination: SMD/SMT; Resistor Type: Thick Film; Features: Moisture Resistant; Series: RC; Max Power Dissipation: 100mW; Number of Terminations: 2; Resistance Tolerance: 1%; Construction: Rectangular; Technology: THICK FILM; Length: 1.6mm; Height: 0.45mm; Depth: 0.8mm; Reach SVHC Compliant: No; Military Standard: Not; Lead Free: Lead Free; RoHS Compliant: Yes; Supplier Part Number 1: 4016291; value: 1kR; Supplier 2: LCSC; Supplier Part Number 2: C728580; Manufacturer Part Number 2: RT0603BRB071KL
footprint RES 0603
footprint RES 0603
pins: 1, 2

## RES  0603 4.7 kOhms ±1% 0.1W, 1/10W
designator R?, comment 4.7kR
4.7 kOhms ±1% 0.1W, 1/10W Chip Resistor 0603 (1608 Metric) Moisture Resistant Thick Film; Power Rating: 100mW; Voltage Rating (DC): 50V; Temperature Coefficient: 100ppm/°C; Supplier 1: Digikey; Manufacturer 2: Yageo; Manufacturer Part Number 2: RC0603FR-074K7L; Stock 1: 637732; Pricing 1: 1 = 0.1, 10 = 0.012, 50 = 0.0096, 100 = 0.0071, 500 = 0.00612, 1000 = 0.0051 (USD); RoHS: Yes; Case/Package: 0603; Number of Pins: 2; Case Code (Imperial): 0603; Case Code (Metric): 1608; Size Code: 0603; Min Operating Temperature: -55°C; Max Operating Temperature: 155°C; Tolerance: 1%; Resistor Type: Thick Film; Resistance: 4.7kR; Packaging: Tape and Reel; Voltage Rating: 50V; Termination: SMD/SMT; Features: Moisture Resistant; Series: RC; Max Power Dissipation: 100mW; Number of Terminations: 2; Construction: Rectangular; Resistance Tolerance: 1%; Length: 1.6mm; Width: 0.8mm; Depth: 0.8mm; Lead Pitch: 0.3mm; RoHS Compliant: Yes; Reach SVHC Compliant: Unknown; Lead Free: 5697LeadFree; Military Standard: Not; ComponentLink1URL: https://datasheet.ciiva.com/15189/getdatasheetpartid-422754-15189760.pdf?src-supplier=Verical; ComponentLink1Description: https://datasheet.ciiva.com/15189/getdatasheetpartid-422754-15189760.pdf?src-supplier=Verical; ComponentLink2URL: https://datasheet.ciiva.com/7660/38590-7660794.pdf?src-supplier=Element14; ComponentLink2Description: https://datasheet.ciiva.com/7660/38590-7660794.pdf?src-supplier=Element14; ComponentLink3URL: https://datasheet.ciiva.com/22747/443971-22747528.pdf?src-supplier=Element14; ComponentLink3Description: https://datasheet.ciiva.com/22747/443971-22747528.pdf?src-supplier=Element14; ComponentLink4URL: https://datasheet.ciiva.com/46440/1868787-46440909.pdf?src-supplier=Element14; ComponentLink4Description: https://datasheet.ciiva.com/46440/1868787-46440909.pdf?src-supplier=Element14; ComponentLink5URL: https://datasheet.ciiva.com/7746/1868787-7746365.pdf?src-supplier=Element14; ComponentLink5Description: https://datasheet.ciiva.com/7746/1868787-7746365.pdf?src-supplier=Element14; ComponentLink6URL: https://datasheet.ciiva.com/7746/1738695-7746366.pdf?src-supplier=Element14; ComponentLink6Description: https://datasheet.ciiva.com/7746/1738695-7746366.pdf?src-supplier=Element14; value: 4.7kR; Supplier 2: LCSC; Supplier Part Number 2: C99782; Supplier Part Number 1: 311-4.70KHRCT-ND
footprint RES 0603
footprint RES 0603
pins: 1, 2

## RES  0603 10KR ±1% 0.1W, 1/10W
designator R?, comment 10kR
10 kOhms ±1% 0.1W, 1/10W Chip Resistor 0603 (1608 Metric) Moisture Resistant Thick Film; Temperature Coefficient: 100ppm/°C; Voltage Rating (DC): 50V; Voltage Rating: 75V; Power Rating: 100mW; Supplier 1: Digikey; Manufacturer 2: Yageo; Manufacturer Part Number 2: RC0603FR-0710KL; Stock 1: 5660971; Pricing 1: 1 = 0.1, 10 = 0.012, 50 = 0.0096, 100 = 0.0071, 500 = 0.00662, 1000 = 0.00612 (USD); RoHS: Yes; Case/Package: 0603; Number of Pins: 2; Case Code (Imperial): 0603; Case Code (Metric): 1608; Size Code: 0603; Weight: 7.1E-05oz; Min Operating Temperature: -55°C; Max Operating Temperature: 155°C; Resistance: 10kR; Tolerance: 1%; Packaging: Tape and Reel; Termination: SMD/SMT; Resistor Type: Thick Film; Features: Moisture Resistant; Series: RC; Max Power Dissipation: 100mW; Number of Terminations: 2; Resistance Tolerance: 1%; Construction: Rectangular; Length: 1.6mm; Width: 0.8mm; Height: 0.45mm; Depth: 0.8mm; Lead Pitch: 0.3mm; Reach SVHC Compliant: No; Lead Free: 5697LeadFree; Military Standard: Not; RoHS Compliant: Yes; ComponentLink1URL: https://datasheet.ciiva.com/7660/38590-7660789.pdf?src-supplier=Element14; ComponentLink1Description: https://datasheet.ciiva.com/7660/38590-7660789.pdf?src-supplier=Element14; value: 10kR; Supplier 2: LCSC; Supplier Part Number 2: C98220; Supplier Part Number 1: 311-10.0KHRCT-ND
footprint RES 0603
footprint RES 0603
pins: 1, 2

## RES  0603 13.3kR ±1% 0.1W
designator R?, comment 13k3R
13.3 kOhms ±1% 0.1W, 1/10W Chip Resistor 0603 (1608 Metric) Thin Film; Manufacturer: Yageo; Manufacturer Part Number 1: RT0603FRE0713K3L; Resistance: 13.3kR; Power Rating: 100mW; Voltage Rating: 75V; Temperature Coefficient: 50ppm/°C; Voltage Rating (DC): 50V; Supplier 1: Digikey; Stock 1: 26442; Pricing 1: 1 = 0.1, 10 = 0.018, 50 = 0.0158, 100 = 0.0128, 500 = 0.01224 (USD); RoHS: Yes; Case/Package: 0603; Case Code (Metric): 1608; Case Code (Imperial): 0603; Contact Plating: Tin,Matte; Min Operating Temperature: -55°C; Max Operating Temperature: 125°C; Package Quantity: 5000; Packaging: Tape and Reel; Tolerance: 1%; Number of Terminations: 2; Termination: SMD/SMT; Max Power Dissipation: 100mW; Series: RT; Length: 0.063inch; Width: 0.031inch; Height: 0.022inch; Lead Free: Lead Free; RoHS Compliant: Yes; ComponentLink1URL: https://datasheet.ciiva.com/2559/pyu-rt-1-to-0-05-rohs-l-5-2559525.pdf?src-supplier=Digikey; ComponentLink1Description: https://datasheet.ciiva.com/2559/pyu-rt-1-to-0-05-rohs-l-5-2559525.pdf?src-supplier=Digikey; ComponentLink2URL: https://datasheet.ciiva.com/8890/pyu-rt-1-to-0-05-rohs-l-4-8890911.pdf?src-supplier=Avnet; ComponentLink2Description: https://datasheet.ciiva.com/8890/pyu-rt-1-to-0-05-rohs-l-4-8890911.pdf?src-supplier=Avnet; ComponentLink3URL: https://datasheet.ciiva.com/12703/pyu-rt-1-to-0-05-rohs-l-4-12703147.pdf?src-supplier=Mouser; ComponentLink3Description: https://datasheet.ciiva.com/12703/pyu-rt-1-to-0-05-rohs-l-4-12703147.pdf?src-supplier=Mouser; value: 13k3R; Manufacturer Part Number 2: RT0603BRE0713K3L; Supplier 2: LCSC; Supplier Part Number 2: C861663; Supplier Part Number 1: 13-RT0603FRE0713K3LCT-ND
footprint RES 0603
footprint RES 0603
pins: 1, 2

## RES  0603 100KR 0.1% 1/10W
designator R?, comment 100kR
100 kOhms ±0.1% 0.1W, 1/10W Chip Resistor 0603 (1608 Metric) Thin Film; Voltage Rating: 75V; Power Rating: 100mW; Temperature Coefficient: 25ppm/°C; Supplier 1: Digikey; Manufacturer 2: Yageo; Manufacturer Part Number 2: RT0603BRD07100KL; Stock 1: 102412; Pricing 1: 1 = 0.14, 10 = 0.098, 50 = 0.0846, 100 = 0.0755, 500 = 0.0561, 1000 = 0.051 (USD); RoHS: Yes; Mount: Surface Mount; Case/Package: 0603; Case Code (Imperial): 0603; Case Code (Metric): 1608; Min Operating Temperature: -55°C; Max Operating Temperature: 155°C; Packaging: Tape and Reel; Tolerance: 0.1%; Resistance: 100kR; Package Quantity: 5000; Termination: SMD/SMT; Number of Terminations: 2; Max Power Dissipation: 100mW; Voltage Rating (DC): 75V; Features: Moisture Resistant; Series: RT; Technology: THIN FILM; Length: 0.063inch; Width: 0.031inch; Height: 0.022inch; Depth: 0.8mm; RoHS Compliant: Yes; Lead Free: 5697LeadFree; ComponentLink1URL: https://datasheet.ciiva.com/11819/0900766b8079c86e-11819622.pdf?src-supplier=Rs; ComponentLink1Description: https://datasheet.ciiva.com/11819/0900766b8079c86e-11819622.pdf?src-supplier=Rs; Supplier 2: LCSC; Supplier Part Number 2: C122538; Supplier Part Number 1: YAG1235CT-ND; value: 100kR
footprint RES 0603
footprint RES 0603
pins: 1, 2

## STM32F103C8T6
designator U?
ARM® Cortex®-M3 STM32F1 Microcontroller IC 32-Bit Single-Core 72MHz 64KB (64K x 8) FLASH; RAM Size: 20KB; Interface: I2C,SPI,USB,CAN,USART; Number of I/Os: 37; Number of Timers/Counters: 3; Max Supply Voltage: 3.6V; Number of ADC Channels: 10; Min Supply Voltage: 2V; Data Bus Width: 32b; Core Architecture: ARM; Nominal Supply Current: 1.7uA; Number of A/D Converters: 2; Supplier 1: Digikey; Manufacturer 2: STMicroelectronics; Manufacturer Part Number 2: STM32F103C8T6; Stock 1: 8973; Pricing 1: 1 = 6.11, 10 = 5.522, 25 = 5.2652, 80 = 4.57163, 250 = 4.36616, 500 = 3.9809, 1000 = 3.46724, 2500 = 3.33883 (USD); RoHS: Yes; Case/Package: LQFP; Number of Pins: 48; Weight: 0.006349oz; Min Operating Temperature: -40°C; Max Operating Temperature: 85°C; Package Quantity: 1500; Packaging: Tray; Memory Type: FLASH; Max Frequency: 72MHz; Memory Size: 64KB; Series: STM32F103C8; Number of Channels: 10; Length: 7mm; Width: 7mm; Height: 1.4mm; Lead Free: Lead Free; RoHS Compliant: Yes; ComponentLink1URL: https://datasheet.ciiva.com/14100/pustm-arm-microcont-stm32f103-en-14100508.pdf?src-supplier=Distrelec; ComponentLink1Description: https://datasheet.ciiva.com/14100/pustm-arm-microcont-stm32f103-en-14100508.pdf?src-supplier=Distrelec; Supplier 2: LCSC; Supplier Part Number 2: C8734; Supplier Part Number 1: 497-6063-ND
footprint STM32F103C8T6 (TSQFP, 48-Leads, Body 7.00x7.00mm, Pitch 0.50mm, IPC Medium Density)
pins: 1 VBAT (power), 2 PC13/TAMPER/RTC(5) (io), 3 PC14/OSC32_IN (io), 4 PC15/OSC32_OUT (io), 5 OSC_IN (in), 6 OSC_OUT (out), 7 NRST (io), 8 VSSA (power), 9 VDDA (power), 10 PA0/WKUP (io), 11 PA1 (io), 12 PA2 (io), 13 PA3 (io), 14 PA4 (io), 15 PA5 (io), 16 PA6 (io), 17 PA7 (io), 18 PB0 (io), 19 PB1 (io), 20 PB2 (io), 21 PB10 (io), 22 PB11 (io), 23 VSS1 (power), 24 VDD1 (power), 25 PB12 (io), 26 PB13 (io), 27 PB14 (io), 28 PB15 (io), 29 PA8 (io), 30 PA9 (io), 31 PA10 (io), 32 PA11 (io), 33 PA12 (io), 34 PA13 (io), 35 VSS2 (power), 36 VDD2 (power), 37 PA14 (io), 38 PA15 (io), 39 PB3 (io), 40 PB4 (io), 41 PB5 (io), 42 PB6 (io), 43 PB7 (io), 44 BOOT0 (in), 45 PB8 (io), 46 PB9 (io), 47 VSS3 (power), 48 VDD3 (power)

## TPS54202
designator U?
Buck Switching Regulator IC Positive Adjustable 0.596V 1 Output 2A SOT-23-6 Thin, TSOT-23-6; Switching Frequency: 500kHz; Number of Outputs: 1; Min Input Voltage: 4.5V; Max Input Voltage: 28V; Min Output Voltage: 596mV; Synchronous Rectifier: Yes; Quiescent Current: 40uA; Max Duty Cycle: 100%; Nominal Supply Current: 45uA; Supplier 1: Digikey; Manufacturer 2: Texas Instruments; Manufacturer Part Number 2: TPS54202DDCR; Stock 1: 1445; Pricing 1: 1 = 1.01, 10 = 0.726, 25 = 0.6548, 100 = 0.5771, 250 = 0.53996, 500 = 0.51758, 1000 = 0.49917 (USD); RoHS: Yes; Mount: Surface Mount; Case/Package: SOT-23-6; Number of Pins: 6; Min Operating Temperature: -40°C; Max Operating Temperature: 125°C; Output Current: 2A; Series: Eco-Mode™; Packaging: Tape and Reel; Max Output Voltage: 28V; Output Type: Adjustable; Output Configuration: Positive; Max Supply Voltage: 28V; Min Supply Voltage: 4.5V; Number of Channels: 1; Length: 2.9mm; Width: 1.6mm; Height: 1.1mm; Thickness: 870um; Lead Free: Lead Free; RoHS Compliant: Yes; ComponentLink1URL: http://www.ti.com/general/docs/suppproductinfo.tsp?distId=10&gotoUrl=http%3A%2F%2Fwww.ti.com%2Flit%2Fgpn%2Ftps54202&src-supplier=Digikey; ComponentLink1Description: http://www.ti.com/general/docs/suppproductinfo.tsp?distId=10&gotoUrl=http%3A%2F%2Fwww.ti.com%2Flit%2Fgpn%2Ftps54202&src-supplier=Digikey; ComponentLink2URL: http://www.ti.com/lit/ds/symlink/tps54202.pdf?src-supplier=Digikey; ComponentLink2Description: http://www.ti.com/lit/ds/symlink/tps54202.pdf?src-supplier=Digikey; ComponentLink3URL: http://www.ti.com/general/docs/suppproductinfo.tsp?distId=10&amp;gotoUrl=http%3A%2F%2Fwww.ti.com%2Flit%2Fgpn%2Ftps54202&src-supplier=Digikey; ComponentLink3Description: http://www.ti.com/general/docs/suppproductinfo.tsp?distId=10&amp;gotoUrl=http%3A%2F%2Fwww.ti.com%2Flit%2Fgpn%2Ftps54202&src-supplier=Digikey; Supplier 2: LCSC; Supplier Part Number 2: C191884; Supplier Part Number 1: 296-TPS54202DDCRCT-ND
footprint SOT-23-6 (Buck Converter TPS54202)
pins: 1 GND (power), 2 SW (out), 3 VIN (power), 4 FB (in), 5 EN (in), 6 BOOT (out)

## TPUSBLC6-2SC6
designator U?
SOT-23-6 ESD and Surge Protection (TVS/ESD) ROHS; Manufacturer 2: TECH PUBLIC; Manufacturer Part Number 2: TPUSBLC6-2SC6; Supplier 2: LCSC; Supplier Part Number 2: C558442
footprint SOT-23-6 (Buck Converter TPS54202)
pins: 1 I/O1 (io), 2 GND, 3 I/O2 (io), 4 I/O2 (io), 5 VBUS, 6 I/O1 (io)

## TS-1187A-B-A-B
designator SB?
None Without 50mA 5.1mm 100000 Times 160gf 12V 5.1mm 1.5mm Round Button Standing paste SPST SMD Tactile Switches ROHS; Manufacturer 2: XKB Connection; Manufacturer Part Number 2: TS-1187A-B-A-B; Supplier 2: LCSC; Supplier Part Number 2: C318884
footprint Switch
pins: 1, 2, 3, 4

## VBAT
designator XBT?
Battery holder CR2032 SMD Button And Strip Battery Connector ROHS; Manufacturer 2: Q&J; Manufacturer Part Number 2: CR2032-BS-6-1; Supplier 2: LCSC; Supplier Part Number 2: C70377; ComponentLink1Description: Link; ComponentLink1URL: https://www.lcsc.com/product-detail/Button-And-Strip-span-style-background-color-ff0-Battery-span-Connector_Q-J-CR2032-BS-6-1_C70377.html
footprint Battery Holder VBAT (Battery holder CR2032 SMD Button And Strip Battery Connector ROHS)
pins: 1 -, 2 +